# Altium schematic symbol library 746400XX.SchLib: 1 symbol
Pins are listed as number, name and electrical type; pins without a type are passive.

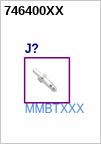
[diagram p0: symbol 746400XX]

## 746400XX
designator J?  Manufacturer Part Number: MMBTXXX  (hidden comment: *)  (mechanical)